# Altium schematic symbol library 0603B104K250CT.SchLib: 1 symbol
Pins are listed as number, name and electrical type; pins without a type are passive.

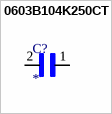
[diagram p0: symbol 0603B104K250CT]

## 0603B104K250CT
designator C?
SMD Condensador CerÃ¡mico 100nF 25V Â±10% X7R 0603 POE / WALSIN; MP: 0603B104K250CT; MF: {'manufacturer': u'Walsin Technology Corporation'}; Availability: Unavailable; Package: None; Value: *; Price: None
footprint CAPC1608X87N
pins: 1, 2